# Altium schematic symbol library TP_ELAN_2021_2022.SCHLIB: 24 symbols
Pins are listed as number, name and electrical type; pins without a type are passive.

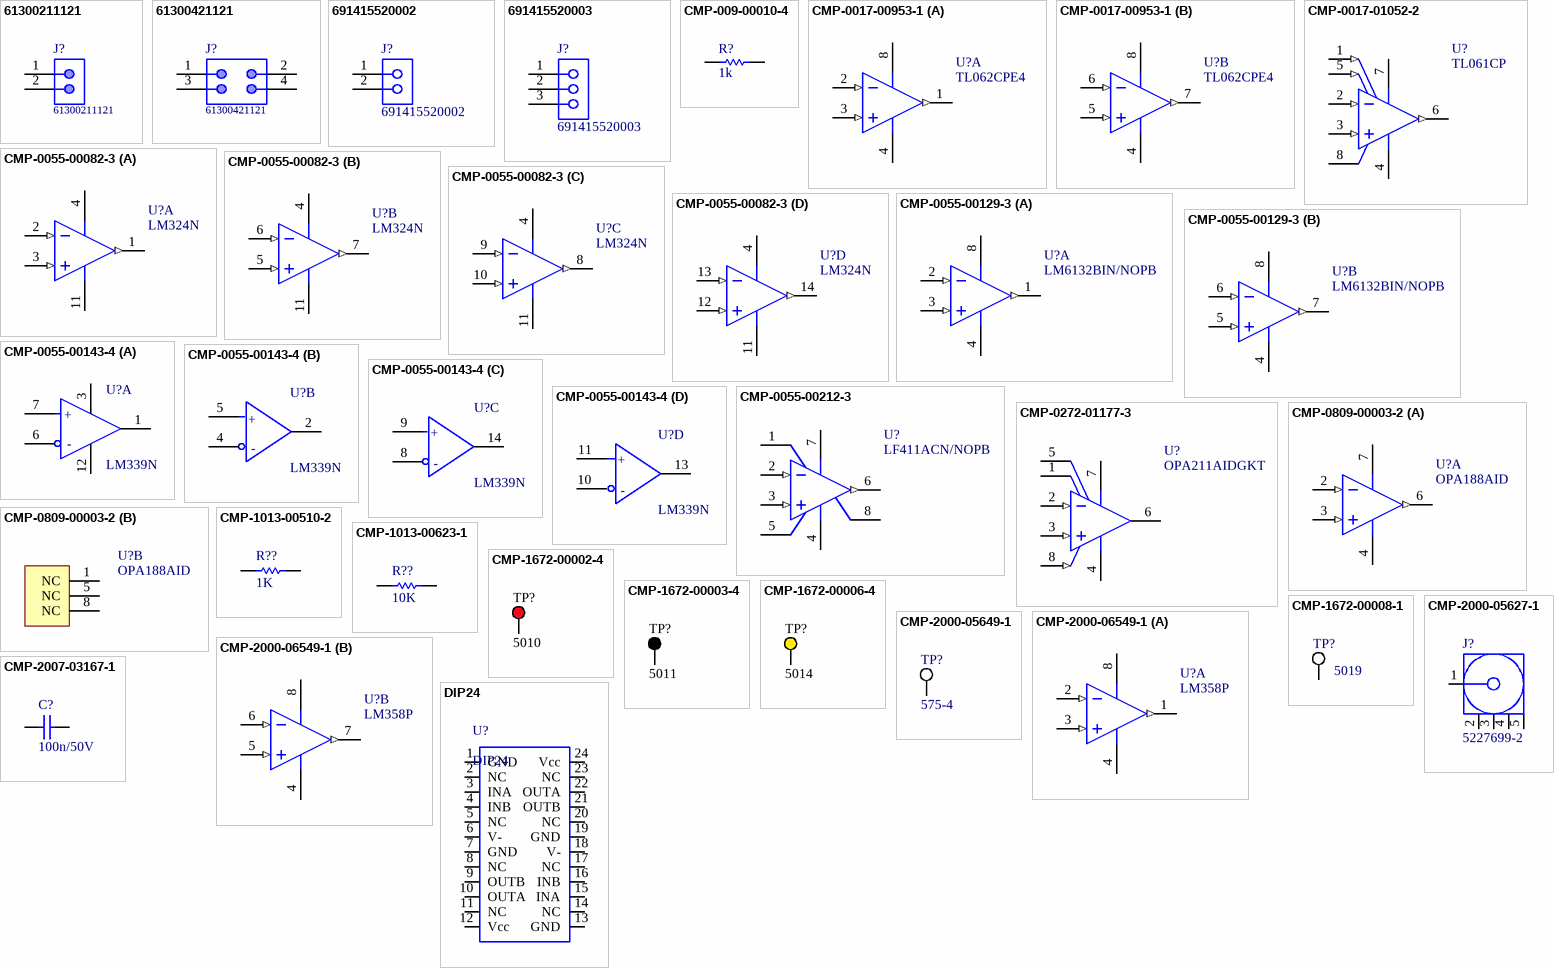
[diagram p0: symbols 61300211121 to DIP24]

## 61300211121
designator J?
WR-PHD Pin Header, THT, pitch 2.54mm, Single Row, Vertical, 2pin; Pin Number: 2; Gender: Male; Rated Current: 3A; Working Voltage: 250VAC; Withstanding Voltage: 500VAC; Contact Resistance: 20mOhm; ComponentLink1Description: Manufacturer; ComponentLink1URL: http://www.we-online.de; ComponentLink2Description: Datasheet; ComponentLink2URL: https://katalog.we-online.de/em/datasheet/6130xx11121.pdf; Part Number: 61300211121; Published Date: June 2019; Publisher: Wurth Elektronik; Pitch: 2.54mm; Operating Temperature: -40 to +105degC; Mounting Technology: THT; Packaging: Bag; Row Number: Single; Orientation: Vertical
footprint 61300211121
pins: 1, 2

## 61300421121
designator J?
WR-PHD Pin Header, THT, pitch 2.54mm, Dual Row, Vertical, 4pin; Pin Number: 4; Gender: Male; Rated Current: 3A; Working Voltage: 250VAC; Withstanding Voltage: 500VAC; Contact Resistance: 20mOhm; ComponentLink1Description: Manufacturer; ComponentLink1URL: http://www.we-online.de; ComponentLink2Description: Datasheet; ComponentLink2URL: https://katalog.we-online.de/em/datasheet/6130xx21121.pdf; Part Number: 61300421121; Published Date: June 2019; Publisher: Wurth Elektronik; Pitch: 2.54mm; Operating Temperature: -40 to +105degC; Mounting Technology: THT; Packaging: Bag; Row Number: Dual; Orientation: Vertical
footprint 61300421121
pins: 1, 2, 3, 4

## 691415520002
designator J?
WR-TBL Serie 4155 45deg Entry, Screwless, pitch 5.08mm, 2p; Compliance: ROHS & Reach; Modularity: No; PCB/Cable/Panel: PCB; Pin Number: 2; Rated Current [UL]: 10A; Working Voltage [UL]: 300VAC; ComponentLink1Description: Manufacturer; ComponentLink1URL: http://www.we-online.de; ComponentLink2URL: https://katalog.we-online.de/em/datasheet/691415520002.pdf; ComponentLink2Description: Datasheet; Mounting Technology: THT; Part Number: 691415520002; Packaging: Box; Operating Temperature: -30 to +120degC; Pitch: 5.08mm; Published Date: October 2019; Type: 45deg; Publisher: Wurth Elektronik; Application: Screwless
footprint 691415520002
pins: 1, 2

## 691415520003
designator J?
WR-TBL Serie 4155 45deg Entry, Screwless, pitch 5.08mm, 3p; Compliance: ROHS & Reach; Modularity: No; PCB/Cable/Panel: PCB; Pin Number: 3; Rated Current [UL]: 10A; Working Voltage [UL]: 300VAC; ComponentLink1Description: Manufacturer; ComponentLink1URL: http://www.we-online.de; ComponentLink2URL: https://katalog.we-online.de/em/datasheet/691415520003.pdf; ComponentLink2Description: Datasheet; Mounting Technology: THT; Part Number: 691415520003; Packaging: Box; Operating Temperature: -30 to +120degC; Pitch: 5.08mm; Published Date: October 2019; Type: 45deg; Publisher: Wurth Elektronik; Application: Screwless
footprint 691415520003
pins: 1, 2, 3

## CMP-009-00010-4
designator R?, comment value 1k  (hidden comment: Resistor 1k +/-1% 0805 125 mW)
Chip Resistor, 1 KOhm, +/- 1%, 0.125 W, -55 to 155 degC, 0805 (2013 Metric); Power: 125mW; Voltage Rating: 150V; Min Operating Temperature: -55°C; RoHS Compliant: True; Max Operating Temperature: 155°C; Case/Package: 0805; Pins: 2; Tolerance: 1%; Mounting Technology: SM
footprint RESC2013X70X40ML20T20 (Chip Resistor, 2-Leads, Body 2.2x1.35mm, IPC Low Density)
footprint RESC2013X70X40NL20T20 (Chip Resistor, 2-Leads, Body 2.2x1.35mm, IPC Medium Density)
footprint RESC2013X70X40LL20T20 (Chip Resistor, 2-Leads, Body 2.2x1.35mm, IPC High Density)
pins: 1, 2

## CMP-0017-00953-1
designator U?, comment TL062CPE4
Dual Low-Power JFET-Input General-Purpose Operational Amplifier, 7 to 36 V, 0 to 70 degC, 8-pin DIP (P8), Pb-Free (RoHS); Manufacturer: Texas Instruments; CMRR(Min)(dB): 70; IIB(Max)(pA): 400; Vn at 1kHz(Typ)(nV/rtHz): 42; Slew Rate(Typ)(V/us): 3.5; Iq per channel(Max)(mA): 0.25; Total Supply Voltage(Max)(+5V is 5, +/-5V is 10): 36; Offset Drift(Typ)(uV/C): 10; Rating: Catalog; Sub Family: General Purpose Amplifier, High Supply Voltage Amplifier (>=30V), Low Power Amp (<=500uA); Total Supply Voltage(Min)(+5V is 5, +/-5V is 10): 7; GBW(Typ)(MHz): 1; Number of Channels: 2; Vio (25C)(Max)(mV): 15; PartNumber: TL062CPE4; ComponentLink2Description: Datasheet; DatasheetVersion: SLOS078J; ComponentLink2URL: http://www.ti.com/lit/ds/symlink/tl062.pdf; ComponentLink3Description: Package Specification; ComponentLink1URL: http://www.ti.com/; ComponentLink3URL: http://www.ti.com/litv/pdf/mpdi001b; PackageDescription: 8-Pin Plastic In-Line, Body 9.59 x 6.35 mm, Pitch 2.54 mm; PackageVersion: 4040082/E, 04/2010; PackageReference: P8; Code_JEDEC: MS-001; Eco-Plan: Pb-Free (RoHS); Mounting Technology: Through Hole; ComponentLink1Description: Manufacturer URL; Manufacturer 1: Texas Instruments; Manufacturer Part Number 1: TL062CPE4
footprint TI-P8 (DIP, 8-Leads, Body 9.59x6.35mm, Pitch 2.54mm)
pins on every part: 4 VCC- (power), 8 VCC+ (power)
part A pins: 1 OUT1 (out), 2 IN1- (in), 3 IN1+ (in)
part B pins: 5 IN2+ (in), 6 IN2- (in), 7 OUT2 (out)

## CMP-0017-01052-2
designator U?, comment TL061CP
Low-Power JFET-Input General-Purpose Operational Amplifier, 7 to 36 V, 0 to 70 degC, 8-pin DIP (P8), Pb-Free (RoHS); Manufacturer: Texas Instruments; CMRR(Min)(dB): 70; Offset Drift(Typ)(uV/C): 10; Vio (25C)(Max)(mV): 15; Rating: Military; Total Supply Voltage(Min)(+5V is 5, +/-5V is 10): 7; Vn at 1kHz(Typ)(nV/rtHz): 42; GBW(Typ)(MHz): 1; Total Supply Voltage(Max)(+5V is 5, +/-5V is 10): 36; Sub Family: General Purpose Amplifier, High Supply Voltage Amplifier (>=30V), Low Power Amp (<=500uA); Slew Rate(Typ)(V/us): 3.5; Iq per channel(Max)(mA): 0.25; IIB(Max)(pA): 400; ComponentLink2URL: http://www.ti.com/lit/ds/symlink/tl061.pdf; Mounting Technology: Through Hole; Code_JEDEC: MS-001; PackageVersion: 4040082/E, 04/2010; ComponentLink1URL: http://www.ti.com/; PartNumber: TL061CP; PackageReference: P0008A; ComponentLink1Description: Manufacturer URL; Eco-Plan: Pb-Free (RoHS); ComponentLink3URL: http://www.ti.com/litv/pdf/mpdi001b; Number of Channels: 1; DatasheetVersion: SLOS078J; ComponentLink3Description: Package Specification; PackageDescription: 8-Pin Plastic In-Line, Body 9.59 x 6.35 mm, Pitch 2.54 mm; ComponentLink2Description: Datasheet; Manufacturer 1: Texas Instruments; Manufacturer Part Number 1: TL061CP
footprint P0008A (DIP, 8-Leads, Body 10.15x6.6mm, Pitch 2.54mm)
pins: 1 OFFSET N1 (in), 2 IN- (in), 3 IN+ (in), 4 VCC- (power), 5 OFFSET N2 (in), 6 OUT (out), 7 VCC+ (power), 8 NC

## CMP-0055-00082-3
designator U?, comment LM324N
Low Power Quad Operational Amplifier, 14-pin MDIP; Manufacturer: Texas Instruments; CompType: Amplifiers; PowerWise: N; PackageTopMarking: NSUZXYYTTE#*LM324N; PackageDescription: MDIP, .750 x .250 x.130in, 14 Lead, .100in Pitch; Package Reference: N0014A; RoHS: N; Code_JEDEC: MS-001-AA; ComponentLink1URL: http://www.ti.com/general/docs/lit/getliterature.tsp?genericPartNumber=LM324&fileType=pdf; ComponentLink1Description: Datasheet URL; PinCount: 14; Manufacturer 1: Texas Instruments; Manufacturer Part Number 1: LM324N
footprint N0014A (DIP, 14-Leads, Body 19.7x6.6mm, Pitch 2.54mm)
pins on every part: 4 V+ (power), 11 GND (power)
part A pins: 1 OUT1 (out), 2 IN1- (in), 3 IN1+ (in)
part B pins: 5 IN2+ (in), 6 IN2- (in), 7 OUT2 (out)
part C pins: 8 OUT3 (out), 9 IN3- (in), 10 IN3+ (in)
part D pins: 12 IN4+ (in), 13 IN4- (in), 14 OUT4 (out)

## CMP-0055-00129-3
designator U?, comment LM6132BIN/NOPB
Dual Low Power 10 MHz Rail-to-Rail I/O Operational Amplifier, 8-pin MDIP, Pb-Free; Manufacturer: Texas Instruments; Manufacturer 1: TI National Semiconductor; PowerWise: N; CompType: Amplifiers; PackageTopMarking: NSUZXYTTE#*LM6132*BIN; PinCount: 8; Code_JEDEC: MS-001-BA; ComponentLink1URL: http://www.ti.com/general/docs/lit/getliterature.tsp?genericPartNumber=LM6132&fileType=pdf; ComponentLink1Description: Datasheet URL; RoHS: Y; PackageDescription: MDIP, .365 x .250 x .130in, 8 Lead, .100in Pitch; Package Reference: P0008A; Manufacturer Part Number 1: LM6132BIN/NOPB
footprint P0008A (DIP, 8-Leads, Body 10.15x6.6mm, Pitch 2.54mm)
pins on every part: 4 V- (power), 8 V+ (power)
part A pins: 1 OUTA (out), 2 INA- (in), 3 INA+ (in)
part B pins: 5 INB+ (in), 6 INB- (in), 7 OUTB (out)

## CMP-0055-00143-4
designator U?, comment LM339N
IC QUAD DIFF COMPARATOR 14-DIP; Manufacturer 1: TI National Semiconductor; Power Dissipation: 1.05kW; Response Time: 1.3us; Max Input Current: 250nA; Max Supply Current: 500uA; Output Current: 20mA; Output Type: TTL; Max Dual Supply Voltage: 15V; Voltage Gain: 106.02dB; Min Supply Voltage: 2V; Max Power Dissipation: 1.05W; Quiescent Current: 2.5mA; Nominal Supply Current: 2mA; Input Offset Voltage (Vos): 5mV; Number of Channels: 4; Output Current per Channel: 6mA; Max Supply Voltage: 30V; Min Dual Supply Voltage: 1V; Dual Supply Voltage: 9V; REACH SVHC: No SVHC; Max Operating Temperature: 70°C; Case/Package: PDIP; Weight: 0.032734oz; Radiation Hardening: No; Min Operating Temperature: 0°C; Number of Pins: 14; Contact Plating: Gold; Package Quantity: 25; Lead Free: Lead Free; Height: 4.57mm; Packaging: Rail/Tube; Input Bias Current: 250nA; Number of Elements: 4; Mount: Through Hole; Width: 6.35mm; Length: 19.3mm; Manufacturer Part Number 1: LM339N
footprint FP-N0014A-MFG
part A pins: 1 1OUT, 3 VCC (power), 6 1IN- (hiz), 7 1IN+ (hiz), 12 GND (power)
part B pins: 2 2OUT, 4 2IN- (hiz), 5 2IN+ (hiz)
part C pins: 8 3IN- (hiz), 9 3IN+ (hiz), 14 OUT3
part D pins: 10 4IN- (hiz), 11 4IN+ (hiz), 13 OUT4
part A text: +; -
part B text: +; -
part C text: +; -
part D text: +; -

## CMP-0055-00212-3
designator U?, comment LF411ACN/NOPB
Low Offset, Low Drift JFET Input Operational Amplifier, 8-pin MDIP, Pb-Free; Manufacturer: Texas Instruments; Manufacturer 1: TI National Semiconductor; PowerWise: N; PackageTopMarking: NSUZXYTTE#*LF*411ACN; CompType: Amplifiers; ComponentLink1Description: Datasheet URL; Code_JEDEC: MS-001-BA; PackageDescription: MDIP, .365 x .250 x .130in, 8 Lead, .100in Pitch; ComponentLink1URL: http://www.ti.com/general/docs/lit/getliterature.tsp?genericPartNumber=LF411-N&fileType=pdf; RoHS: Y; Package Reference: P0008A; PinCount: 8; Manufacturer Part Number 1: LF411ACN/NOPB
footprint P0008A (DIP, 8-Leads, Body 10.15x6.6mm, Pitch 2.54mm)
pins: 1 BAL, 2 IN- (in), 3 IN+ (in), 4 V- (power), 5 BAL, 6 OUT (out), 7 V+ (power), 8 NC

## CMP-0272-01177-3
designator U?, comment OPA211AIDGKT
1.1 nV/rtHz Noise, Low Power, Precision Operational Amplifier, 4.5 to 36 V, -40 to 125 degC, 8-pin SOP (DGK8), Green (RoHS & no Sb/Br); Manufacturer: Texas Instruments; Packing: SMALL T&R; Sub Family: High Supply Voltage Amplifier (>=30V), Low Noise Amp (<=10nV/rtHz), Low Offset Voltage Amplifier (<=500uV), Precision Amplifier; Vio (25C)(Max)(mV): 0.125; Total Supply Voltage(Min)(+5V is 5, +/-5V is 10): 4.5; Rating: Catalog; Slew Rate(Typ)(V/us): 27; Total Supply Voltage(Max)(+5V is 5, +/-5V is 10): 36; GBW(Typ)(MHz): 45; Offset Drift(Typ)(uV/C): 0.15; IIB(Max)(pA): 175000; CMRR(Min)(dB): 114; Number of Channels: 1; PackageReference: DGK0008A; DatasheetVersion: SBOS377G; ComponentLink3URL: http://www.ti.com/litv/pdf/mpds028d; Eco-Plan: Green (RoHS & no Sb/Br); ComponentLink2Description: Datasheet; Code_JEDEC: MO-187; Mounting Technology: Surface Mount; ComponentLink1Description: Manufacturer URL; PartNumber: OPA211AIDGKT; PackageVersion: 4073329/E, 05/2006; Iq per channel(Max)(mA): 4.5; ComponentLink2URL: http://www.ti.com/lit/ds/symlink/opa211.pdf; ComponentLink1URL: http://www.ti.com/; ComponentLink3Description: Package Specification; PackageDescription: 8-Pin Thin Small Outline, Body 3 x 3 mm, Pitch 0.65 mm; Manufacturer 1: Texas Instruments; Manufacturer Part Number 1: OPA211AIDGKT
footprint DGK0008A_N (TSOP, 8-Leads, Body 3.1x3.1mm, Pitch 0.65mm, IPC Medium Density)
footprint DGK0008A_L (TSOP, 8-Leads, Body 3.1x3.1mm, Pitch 0.65mm, IPC High Density)
footprint DGK0008A_M (TSOP, 8-Leads, Body 3.1x3.1mm, Pitch 0.65mm, IPC Low Density)
pins: 1 NC, 2 IN- (in), 3 IN+ (in), 4 V- (power), 5 NC, 6 OUT (hiz), 7 V+ (power), 8 SHUTDOWN (in)

## CMP-0809-00003-2
designator U?, comment OPA188AID
Precision, Low Noise, Rail-to-Rail Output, Zero-Drift Operational Amplifier, 4 to 36 V, -40 to 125 degC, 8-pin SOIC (D8), Green (RoHS & no Sb/Br); Manufacturer: Texas Instruments; Total Supply Voltage(Min)(+5V is 5, +/-5V is 10): 4; Packing: TUBE; Rating: Catalog; Number of Channels: 1; Iq per channel(Max)(mA): 0.51; SubFamily: Zero Drift Precision Amplifier; Offset Drift(Typ)(uV/C): 0.03; CMRR(Min)(dB): 120; GBW(Typ)(MHz): 2; Slew Rate(Typ)(V/us): 0.8; Total Supply Voltage(Max)(+5V is 5, +/-5V is 10): 36; ComponentLink2Description: Datasheet; Eco-Plan: Green (RoHS & no Sb/Br); ComponentLink2URL: http://www.ti.com/lit/ds/symlink/opa188.pdf; PackageReference: D0008A; ComponentLink3Description: Package Specification; PackageVersion: 4040047-3/M, 06/2011; ComponentLink3URL: http://www.ti.com/litv/pdf/msoi002j; Mounting Technology: Surface Mount; PackageDescription: 8-Pin Plastic Small Outline, Body 4.9 x 3.9 mm, Pitch 1.27 mm; ComponentLink1Description: Manufacturer URL; ComponentLink1URL: http://www.ti.com/; PartNumber: OPA188AID; Code_JEDEC: MS-012; DatasheetVersion: SBOS642A; Manufacturer 1: Texas Instruments; Manufacturer Part Number 1: OPA188AID
footprint D0008A_L (SOIC, 8-Leads, Body 5x4mm, Pitch 1.27mm, IPC High Density)
footprint D0008A_N (SOIC, 8-Leads, Body 5x4mm, Pitch 1.27mm, IPC Medium Density)
footprint D0008A_M (SOIC, 8-Leads, Body 5x4mm, Pitch 1.27mm, IPC Low Density)
part A pins: 2 IN- (in), 3 IN+ (in), 4 V- (power), 6 OUT (out), 7 V+ (power)
part B pins: 1 NC, 5 NC, 8 NC

## CMP-1013-00510-2
designator R??, comment 1K
1 kOhms ±1% 0.125W, 1/8W Chip Resistor 0805 (2012 Metric) Automotive AEC-Q200 Thick Film; Part Number: CRCW08051K00FKEA; Manufacturer: Vishay Dale; Manufacturer 10: Yageo; Manufacturer Part Number 10: RC0805FR-071KL; Supplier 1: Digi-Key; Supplier Part Number 1: 541-1.00KCCT-ND; Manufacturer 1: Vishay Dale; Manufacturer Part Number 1: CRCW08051K00FKEA; Manufacturer 2: Vishay Dale; Manufacturer Part Number 2: CRCW08051K00FKEB; Manufacturer 3: Panasonic; Manufacturer Part Number 3: ERJ6ENF1001V; Manufacturer 4: Vishay Dale; Manufacturer Part Number 4: CRCW08051K00FKTB; Manufacturer 5: Rohm; Manufacturer Part Number 5: MCR10EZPF1001; Manufacturer 6: Vishay; Manufacturer Part Number 6: CRCW08051K00FKEC; Manufacturer 7: Vishay Dale; Manufacturer Part Number 7: CRCW08051K00FKTC; Manufacturer 8: Vishay Dale; Manufacturer Part Number 8: CRCW08051K00FKTA; Manufacturer 9: Bourns; Manufacturer Part Number 9: CR0805-FX-1001ELF
footprint RESC2013X50X30NL20T20 (Chip Resistor, 2-Leads, Body 2.00x1.25mm, IPC Medium Density)
footprint RESC2013X50X30LL20T20 (Chip Resistor, 2-Leads, Body 2.00x1.25mm, IPC High Density)
footprint RESC2013X50X30ML20T20 (Chip Resistor, 2-Leads, Body 2.00x1.25mm, IPC Low Density)
pins: 1, 2
1 alternate drawing of the same symbol

## CMP-1013-00623-1
designator R??, comment 10K
10K 0.125W 1% 0805 (2012 Metric)  SMD; Manufacturer 1: Vishay Dale; Manufacturer Part Number 1: CRCW080510K0FKEC; Manufacturer 10: Panasonic; Manufacturer Part Number 10: ERJ-6ENF1002V; Case-Metric: 2012; Case-EIA: 0805; Value: 10k; Tolerance: 1 %; Power: 0.125 W; Technology: SMT; Supplier 1: Digi-Key; Supplier Part Number 1: 541-10.0KCCT-ND; Manufacturer 2: Yageo; Manufacturer Part Number 2: RC0805FR-0710KL; Manufacturer 3: Vishay Dale; Manufacturer Part Number 3: CRCW080510K0FKTC; Manufacturer 4: Vishay Dale; Manufacturer Part Number 4: CRCW080510K0FKEB; Manufacturer 5: Bourns; Manufacturer Part Number 5: CR0805-FX-1002ELF; Manufacturer 6: Rohm; Manufacturer Part Number 6: MCR10EZPF1002; Manufacturer 7: Vishay; Manufacturer Part Number 7: CRCW080510K0FKEA; Manufacturer 8: Vishay Dale; Manufacturer Part Number 8: CRCW080510K0FKTB; Manufacturer 9: Vishay Dale; Manufacturer Part Number 9: CRCW080510K0FKTA
footprint RESC0805(2012)_M (Chip Resistor, Body 2.0x1.3mm, IPC Low Density)
footprint RESC0805(2012)_N (Chip Resistor, Body 2.0x1.3mm, IPC Medium Density)
footprint RESC0805(2012)_L (Chip Resistor, Body 2.0x1.3mm, IPC High Density)
pins: 1, 2
1 alternate drawing of the same symbol

## CMP-1672-00002-4
designator TP?, comment 5010
Test Point, Red, Through Hole, RoHS, Bulk; Manufacturer: Keystone; Manufacturer 1: Keystone Electronics; Contact Material: Bronze; Mounting Technology: Through Hole; RoHSCompliant: true; Pins: 1; Package Quantity: 100; ComponentLink2Description: Datasheet; Height: 8.12 mm; ComponentLink1URL: http://www.keyelco.com/; DatasheetVersion: Rev. F, 12/2013; Mount: Through Hole; PackageReference: 5010; Contact Plating: Silver; Packaging: Bulk; Colour: Red; REACH SVHC: No SVHC; PackageDescription: 1-Pin Through Hole Device, Dia 3.17 mm; ComponentLink2URL: http://www.keyelco.com/product-pdf.cfm?p=1319; ComponentLink1Description: Manufacturer URL; Manufacturer Part Number 1: 5010
footprint KSTN-5010_V (Test Point, Dia 3.17mm)
pins: 1

## CMP-1672-00003-4
designator TP?, comment 5011
Test Point, Black, Through Hole, RoHS, Bulk; Manufacturer: Keystone; Manufacturer 1: Keystone Electronics; ComponentLink2URL: http://www.keyelco.com/product-pdf.cfm?p=1320; Colour: Black; Pins: 1; REACH SVHC: No SVHC; ComponentLink1URL: http://www.keyelco.com/; PackageReference: 5011; Contact Plating: Silver; Package Quantity: 100; Packaging: Bulk; RoHSCompliant: true; Height: 8.12 mm; PackageDescription: 1-Pin Through Hole Device, Dia 3.17 mm; Mount: Through Hole; Mounting Technology: Through Hole; DatasheetVersion: Rev. F, 12/2013; ComponentLink1Description: Manufacturer URL; Contact Material: Bronze; ComponentLink2Description: Datasheet; Manufacturer Part Number 1: 5011
footprint KSTN-5011_V (Test Point, Dia 3.17mm)
pins: 1

## CMP-1672-00006-4
designator TP?, comment 5014
Test Point, Yellow, Through Hole, RoHS, Bulk; Manufacturer: Keystone; Manufacturer 1: Keystone Electronics; PackageDescription: 1-Pin Through Hole Device, Dia 3.17 mm; REACH SVHC: No SVHC; ComponentLink2Description: Datasheet; ComponentLink2URL: http://www.keyelco.com/product-pdf.cfm?p=1323; Package Quantity: 100; Colour: Yellow; Height: 8.12 mm; RoHSCompliant: true; Contact Material: Bronze; Mount: Through Hole; Contact Plating: Silver; ComponentLink1URL: http://www.keyelco.com/; Packaging: Bulk; Mounting Technology: Through Hole; PackageReference: 5014; ComponentLink1Description: Manufacturer URL; DatasheetVersion: Rev. F, 12/2013; Manufacturer Part Number 1: 5014
footprint KSTN-5014_V (Test Point, Dia 3.17mm)
pins: 1

## CMP-1672-00008-1
designator TP?, comment 5019
Test Point, 1 Position SMD, RoHS, Tape and Reel; Manufacturer 1: Keystone Electronics; ComponentLink1Description: Manufacturer URL; Package Quantity: 1000; DatasheetVersion: 03/2014; Packaging: Tape and Reel; ComponentLink2URL: http://www.keyelco.com/product-pdf.cfm?p=1357; ComponentLink1URL: http://www.keyelco.com/; Mount: Surface Mount; Contact Plating: Silver; PackageDescription: 1-Pin Surface Mount Device, Body 3.81 x 2.03 mm; Pins: 1; RoHSCompliant: True; Mounting Technology: Surface Mount; ComponentLink2Description: Datasheet; PackageReference: 5019; Manufacturer Part Number 1: 5019
footprint KSTN-5019_V (Test Point, 1-Leads, Body 3.81x2.03mm)
pins: 1

## CMP-2000-05627-1
designator J?, comment 5227699-2
Jack BNC Connector, 1 Position, Height 16.26 mm, Tail Length 6.35 mm, -55 to 85 degC, RoHS, Tube; Manufacturer: TE Connectivity; Frequency - Max: 4GHz; Dynamic Catalog: BNCConnectors; Connector Type: Jack,FemaleSockets; Other Names: A32269; Impedance: 50Ohm; 3D Model: 5227699-2.pdf; Contact Termination: Solder; Standard Package: 30; Mounting Technology: ThroughHole; Package Reference: 5227699-2; Category: Connectors,Interconnects; Datasheet URL: http://www.te.com/commerce/DocumentDelivery/DDEController?Action=showdoc&DocId=Customer+Drawing%7F5227699%7FA1%7Fpdf%7FEnglish%7FENG_CD_5227699_A1.pdf%7F5227699-2; Mounting Type: ThroughHole,Flange(Square); Datasheet Version: Rev. A1, 03/2011; Manufacturer URL: http://www.te.com/; RoHS Information: 5227699-2StatementofCompliance; Fastening Type: BayonetLock; Series: BNC; Connector Style: BNC; Family: CoaxialConnectors(RF); Packaging: Bulk; Package Description: Jack BNC Connector, 1 Position, Height 16.26 mm, Tail Length 6.35 mm; Manufacturer 1: TE Connectivity; Manufacturer Part Number 1: 5227699-2
footprint TECO-5227699-2_V (THD, 5-Leads, Body 17.45x17.45mm)
pins: 1, 2, 3, 4, 5

## CMP-2000-05649-1
designator TP?, comment 575-4
Banana Jack, Non-Insulated, 1-Pin THD, RoHS, Bulk; Manufacturer: Keystone-Electronics; Manufacturer 1: Keystone Electronics; Package Version: Rev. B, 11/1994; Plug/Mating Plug Diameter: StandardBanana; Gender: Female; Package Reference: 575-4; Operating Temperature: -; Contact Material: Brass; Packaging: Bulk; Series: -; Category: Connectors,Interconnects; Color: -; Type: BananaJack; Contact Finish: Nickel; Features: -; Family: BananaandTipConnectors-Jacks,Plugs; Body Material: -; Manufacturer URL: http://www.keyelco.com/; Termination: Solder; Insulation: Non-Insulated; Datasheet Version: Rev. B, 11/1994; Mounting Technology: ThroughHole; Package URL: http://www.keyelco.com/product-pdf.cfm?p=2379; Mounting Type: ThroughHole; Package Description: 1-Pin Through Hole Device, Dia 7.92 mm; Datasheet URL: http://www.keyelco.com/product-pdf.cfm?p=2379; Wire Gauge: -; Manufacturer Part Number 1: 575-4
footprint KSTN-575-4 (Banana Jack, Non-Insulated, Dia 7.92mm)
pins: 1

## CMP-2000-06549-1
designator U?, comment LM358P
Dual Operational Amplifier, 3 to 32 V, 0 to 70 degC, 8-Pin PDIP (P), RoHS, Tape and Reel; Manufacturer: Technik Industrial; Manufacturer 1: Texas Instruments; Datasheet Version: Rev. T, 04/2015; Datasheet URL: http://www.ti.com/lit/ds/symlink/lm358.pdf; Manufacturer URL: http://www.technik.com.hk/; Package Description: 8-Pin Double In-line Package, Body 9.59 x 6.35 mm, Pitch 2.54 mm; Mounting Technology: ThroughHole; Package URL: http://www.ti.com/lit/ml/mpdi001b/mpdi001b.pdf; Package Reference: P8; Manufacturer Part Number 1: LM358P
footprint P0008A (DIP, 8-Leads, Body 10.15x6.6mm, Pitch 2.54mm)
pins on every part: 4 GND (power), 8 VCC (power)
part A pins: 1 1OUT (out), 2 1IN- (in), 3 1IN+ (in)
part B pins: 5 2IN+ (in), 6 2IN- (in), 7 2OUT (out)

## CMP-2007-03167-1
designator C?, comment 100n/50V
VJ0805Y104KNAAT; Manufacturer: Vitramon; Manufacturer 1: Vishay Vitramon; Part Number: VJ0805Y104KNAAT; Manufacturer Part Number 1: VJ0805Y104KNAAT
footprint CAPC2013X145X48NL20T23 (Chip Capacitor, 2-Leads, Body 2.00x1.25mm, IPC Medium Density)
footprint CAPC2013X145X48ML20T23 (Chip Capacitor, 2-Leads, Body 2.00x1.25mm, IPC Low Density)
footprint CAPC2013X145X48LL20T23 (Chip Capacitor, 2-Leads, Body 2.00x1.25mm, IPC High Density)
pins: 1, 2
1 alternate drawing of the same symbol

## DIP24
designator U?
footprint 110-43-624-41-001000
pins: 1 GND, 2 NC, 3 INA, 4 INB, 5 NC, 6 V-, 7 GND, 8 NC, 9 OUTB, 10 OUTA, 11 NC, 12 Vcc, 13 GND, 14 NC, 15 INA, 16 INB, 17 NC, 18 V-, 19 GND, 20 NC, 21 OUTB, 22 OUTA, 23 NC, 24 Vcc